# EAGLE library part TC4428 (library Roboracing)
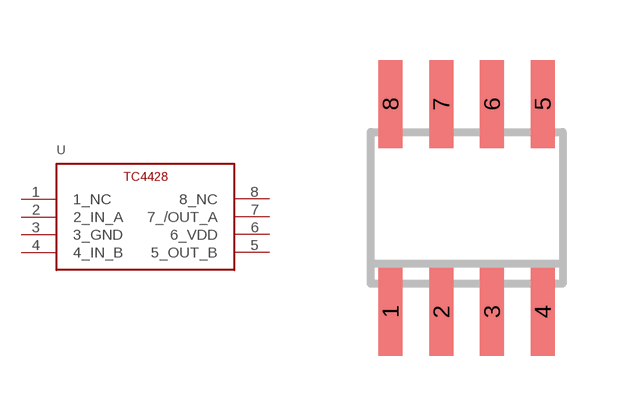
[diagram p0: symbol with the pads of SOIC-8; footprint SOIC-8]

Designator prefix U

## TC4428N  [SOIC-8]
1  1_NC
2  2_IN_A
3  3_GND
4  4_IN_B
5  5_OUT_B
6  6_VDD
7  7_/OUT_A
8  8_NC

## Footprint SOIC-8 (pad centres in mm)
SMALL OUTLINE INTEGRATED CIRCUIT body 3.9 mm/JEDEC MS-012AA
smd 0.6 x 2.2: 1 -1.905,-2.6; 2 -0.635,-2.6; 3 0.635,-2.6; 4 1.905,-2.6; 5 1.905,2.6; 6 0.635,2.6; 7 -0.635,2.6; 8 -1.905,2.6